# Altium footprint library Resistors.PcbLib: 25 footprints (part 1 of 2)
Each footprint in its own frame and in the unit in brackets; x right, y up, seen from the top. Pads: shape width x height; smd on the part's side, far side on the other; paste and mask are expansions set on the pad; w line width, h text height; cw(c..) or ccw(c..) is an arc to the next point about the centre after c.
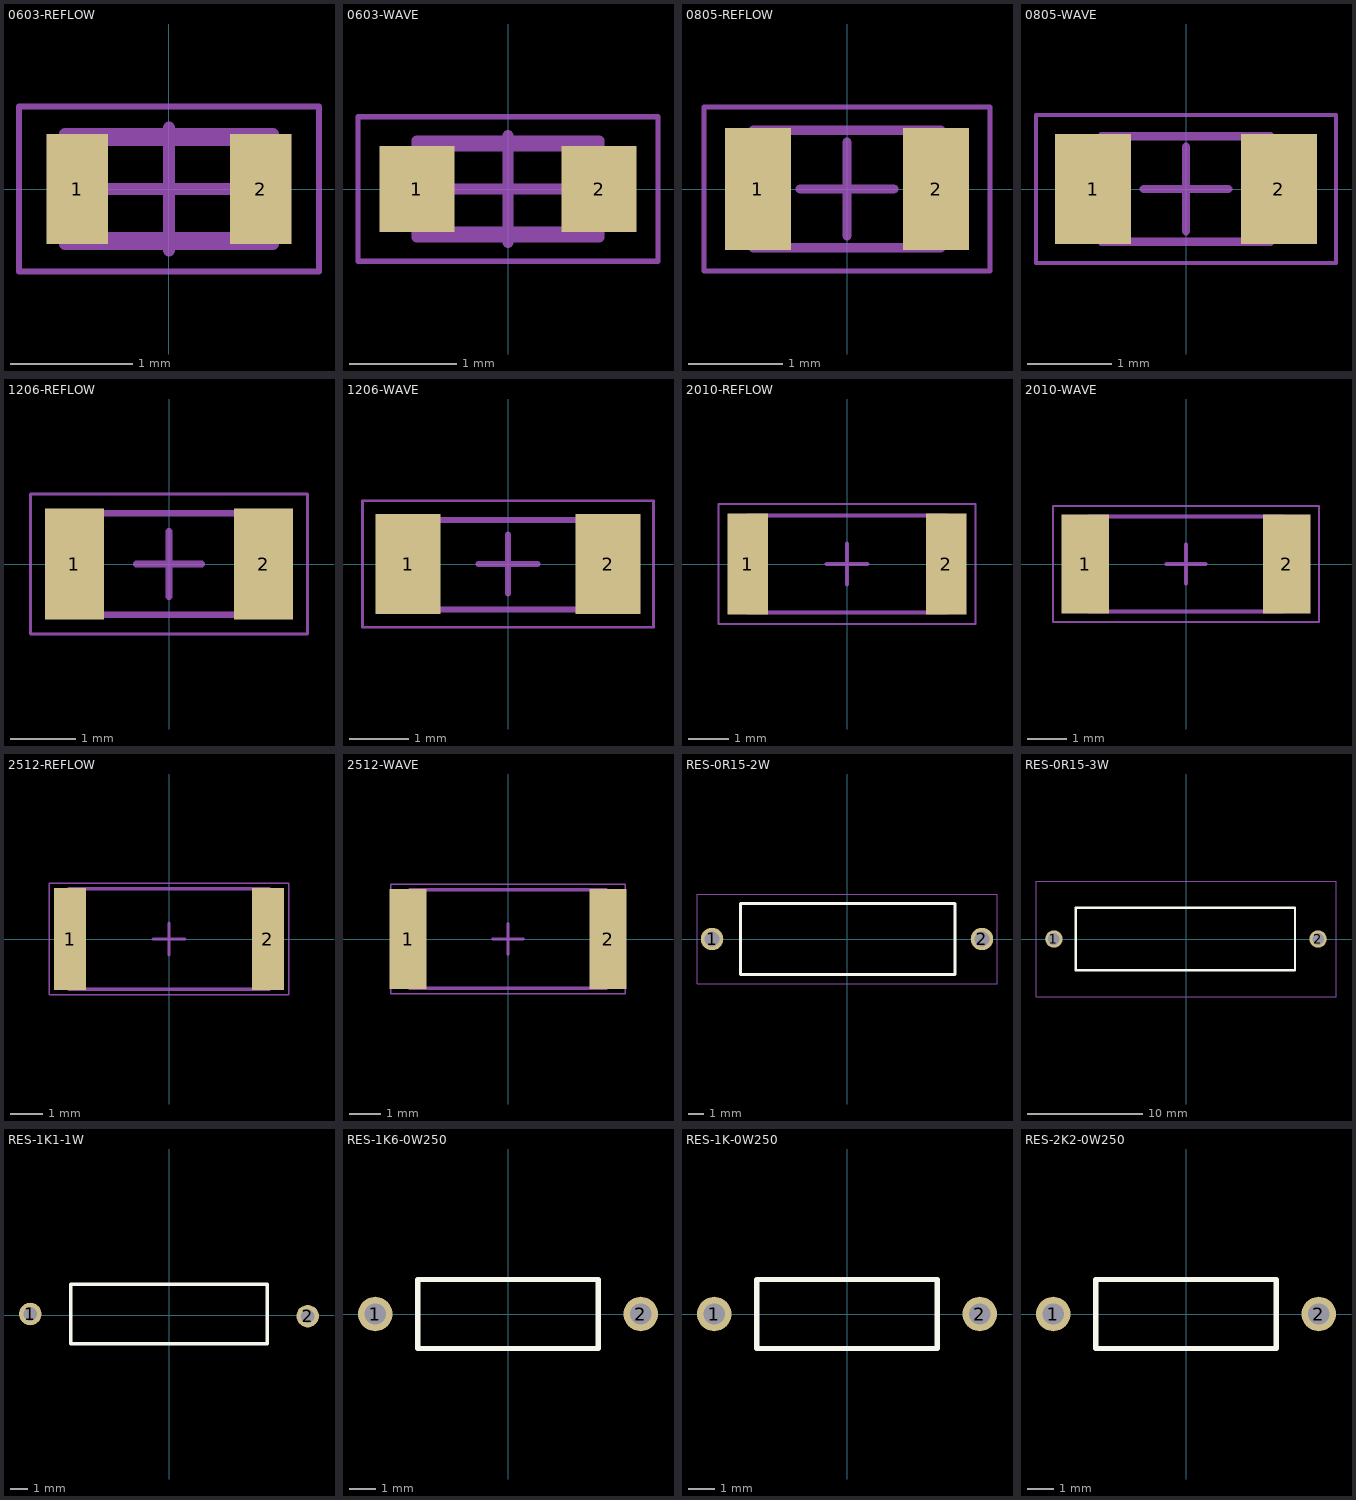
[diagram p0: the footprints below, top view; thin cyan lines are the x and y axes]

## 0603-REFLOW [mm]
pads (2):
  rect 0.5x0.9 smd: 1(-0.75,0) 2(0.75,0)
Top Assembly:
  lines w0.1: -0.85,-0.45 0.85,-0.45 0.85,0.45 -0.85,0.45 -0.85,-0.45
Top Designator:
  text ".Designator" at -3.647,-0.357 h1
Top 3D Body:
  lines w0.1: -0.8,-0.4 -0.8,0.4 0.8,0.4 0.8,-0.4 -0.8,-0.4
Top Courtyard:
  lines w0.05: -1.225,-0.675 1.225,-0.675 1.225,0.675 -1.225,0.675 -1.225,-0.675
Top Component Center (Mech17):
  lines w0.1: -0.5,0 0.5,0 ; 0,-0.5 0,0.5
3D body "RES0603.stp": height 0.45, standoff 0, extent -0.8,-0.4 0.8,0.4

## 0603-WAVE [mm]
pads (2):
  rect 0.7x0.8 smd: 1(-0.85,0) 2(0.85,0)
Top Assembly:
  lines w0.1: -0.85,-0.45 -0.85,0.45 0.85,0.45 0.85,-0.45 -0.85,-0.45
Top Designator:
  text ".Designator" at -3.647,-0.357 h1
Top 3D Body:
  lines w0.1: -0.8,-0.4 0.8,-0.4 0.8,0.4 -0.8,0.4 -0.8,-0.4
Top Courtyard:
  lines w0.05: -1.4,-0.675 -1.4,0.675 1.4,0.675 1.4,-0.675 -1.4,-0.675
Top Component Center (Mech17):
  lines w0.1: -0.5,0 0.5,0 ; 0,-0.5 0,0.5
3D body "RES0603.stp": height 0.45, standoff 0, extent -0.8,-0.4 0.8,0.4

## 0805-REFLOW [mm]
pads (2):
  rect 0.7x1.3 smd: 1(-0.95,0) 2(0.95,0)
Top Assembly:
  lines w0.1: -1,-0.625 -1,0.625 1,0.625 1,-0.625 -1,-0.625
Top Designator:
  text ".Designator" at -3.647,-0.357 h1
Top 3D Body:
  lines w0.1: -1,-0.625 -1,0.625 1,0.625 1,-0.625 -1,-0.625
Top Courtyard:
  lines w0.05: -1.525,-0.875 1.525,-0.875 1.525,0.875 -1.525,0.875 -1.525,-0.875
Top Component Center (Mech17):
  lines w0.1: -0.5,0 0.5,0 ; 0,-0.5 0,0.5
3D body "RES0805.stp": height 0.5, standoff 0, extent -1,-0.63 1,0.62

## 0805-WAVE [mm]
pads (2):
  rect 0.9x1.3 smd: 1(-1.1,0) 2(1.1,0)
Top Assembly:
  lines w0.1: -1,-0.625 -1,0.625 1,0.625 1,-0.625 -1,-0.625
Top Designator:
  text ".Designator" at -3.647,-0.357 h1
Top 3D Body:
  lines w0.1: -1,-0.625 -1,0.625 1,0.625 1,-0.625 -1,-0.625
Top Courtyard:
  lines w0.05: -1.775,-0.875 -1.775,0.875 1.775,0.875 1.775,-0.875 -1.775,-0.875
Top Component Center (Mech17):
  lines w0.1: -0.5,0 0.5,0 ; 0,-0.5 0,0.5
3D body "RES0805.stp": height 0.5, standoff 0, extent -1,-0.63 1,0.62

## 1206-REFLOW [mm]
pads (2):
  rect 0.9x1.7 smd: 1(-1.45,0) 2(1.45,0)
Top Assembly:
  lines w0.1: -1.55,-0.775 -1.55,0.775 1.55,0.775 1.55,-0.775 -1.55,-0.775
Top Designator:
  text ".Designator" at -3.647,-0.357 h1
Top 3D Body:
  lines w0.1: -1.55,-0.775 -1.55,0.775 1.55,0.775 1.55,-0.775 -1.55,-0.775
Top Courtyard:
  lines w0.05: -2.125,-1.075 -2.125,1.075 2.125,1.075 2.125,-1.075 -2.125,-1.075
Top Component Center (Mech17):
  lines w0.1: -0.5,0 0.5,0 ; 0,-0.5 0,0.5
3D body "RES1206.stp": height 0.55, standoff 0, extent -1.55,-0.772 1.55,0.78

## 1206-WAVE [mm]
pads (2):
  rect 1.1x1.7 smd: 1(-1.7,0) 2(1.7,0)
Top Assembly:
  lines w0.1: -1.55,-0.775 1.55,-0.775 1.55,0.75 -1.55,0.75 -1.55,-0.775
Top Designator:
  text ".Designator" at -3.647,-0.357 h1
Top 3D Body:
  lines w0.1: -1.55,-0.775 1.55,-0.775 1.55,0.75 -1.55,0.75 -1.55,-0.775
Top Courtyard:
  lines w0.05: -2.475,-1.075 -2.475,1.075 2.475,1.075 2.475,-1.075 -2.475,-1.075
Top Component Center (Mech17):
  lines w0.1: -0.5,0 0.5,0 ; 0,-0.5 0,0.5
3D body "RES1206.stp": height 0.55, standoff 0, extent -1.55,-0.772 1.55,0.78

## 2010-REFLOW [mm]
pads (2):
  rect 1x2.5 smd: 1(-2.45,0) 2(2.45,0)
Top Assembly:
  lines w0.1: -2.45,-1.2 2.45,-1.2 2.45,1.2 -2.45,1.2 -2.45,-1.2
Top Designator:
  text ".Designator" at -3.646,-0.357 h1
Top 3D Body:
  lines w0.1: -2.45,-1.2 2.45,-1.2 2.45,1.2 -2.45,1.2 -2.45,-1.2
Top Courtyard:
  lines w0.05: -3.175,-1.475 -3.175,1.475 3.175,1.475 3.175,-1.475 -3.175,-1.475
Top Component Center (Mech17):
  lines w0.1: -0.5,0 0.5,0 ; 0,-0.5 0,0.5
3D body "RES2010.stp": height 0.55, standoff 0, extent -2.45,-1.2 2.45,1.2

## 2010-WAVE [mm]
pads (2):
  rect 1.2x2.5 smd: 1(-2.55,0) 2(2.55,0)
Top Assembly:
  lines w0.1: -2.45,-1.2 -2.45,1.2 2.45,1.2 2.45,-1.2 -2.45,-1.2
Top Designator:
  text ".Designator" at -3.647,-0.357 h1
Top 3D Body:
  lines w0.1: -2.45,-1.2 2.45,-1.2 2.45,1.2 -2.45,1.2 -2.45,-1.2
Top Courtyard:
  lines w0.05: -3.375,-1.475 -3.375,1.475 3.375,1.475 3.375,-1.475 -3.375,-1.475
Top Component Center (Mech17):
  lines w0.1: -0.5,0 0.5,0 ; 0,-0.5 0,0.5
3D body "RES2010.stp": height 0.55, standoff 0, extent -2.45,-1.2 2.45,1.2

## 2512-REFLOW [mm]
pads (2):
  rect 1x3.2 smd: 1(-3.1,0) 2(3.1,0)
Top Assembly:
  lines w0.1: -3.15,-1.575 3.15,-1.575 3.15,1.575 -3.15,1.575 -3.15,-1.575
Top Designator:
  text ".Designator" at -3.646,-0.357 h1
Top Courtyard:
  lines w0.05: -3.75,-1.75 3.75,-1.75 3.75,1.75 -3.75,1.75 -3.75,-1.75
Top Component Center (Mech17):
  lines w0.1: -0.5,0 0.5,0 ; 0,-0.5 0,0.5
3D body "RES2512.stp": height 0.55, standoff 0, extent -3.15,-1.55 3.15,1.55

## 2512-WAVE [mm]
pads (2):
  rect 1.2x3.2 smd: 1(-3.2,0) 2(3.2,0)
Top Assembly:
  lines w0.1: -3.15,-1.575 3.15,-1.575 3.15,1.575 -3.15,1.575 -3.15,-1.575
Top Designator:
  text ".Designator" at -3.646,-0.357 h1
Top Courtyard:
  lines w0.05: -3.75,-1.75 3.75,-1.75 3.75,1.75 -3.75,1.75 -3.75,-1.75
Top Component Center (Mech17):
  lines w0.1: -0.5,0 0.5,0 ; 0,-0.5 0,0.5
3D body "RES2512.stp": height 0.55, standoff 0, extent -3.15,-1.55 3.15,1.55

## RES-0R15-2W [mm]
pads (2):
  round 1.5 hole 1 paste-2539.97: 1(-9,0) 2(9,0)
Top Overlay:
  lines w0.2: -7.1,-2.362 7.2,-2.362 7.2,2.362 -7.1,2.362 -7.1,-2.362
Top Designator:
  text ".Designator" at -3.647,-0.357 h1
Top Courtyard:
  lines w0.05: -10,-3 10,-3 10,3 -10,3 -10,-3
3D body "0R15.STEP": height 4.82, standoff -2.57, extent -9.243,-2.418 9.241,2.362

## RES-0R15-3W [mm]
pads (2):
  round 1.5 hole 1 paste-2539.97: 1(-11.45,0) 2(11.45,0)
Top Overlay:
  lines w0.2: -9.55,-2.7 9.45,-2.7 9.45,2.7 -9.55,2.7 -9.55,-2.7
Top Designator:
  text ".Designator" at -3.647,-0.17 h1
Top Courtyard:
  lines w0.05: -13,-5 -13,5 13,5 13,-5 -13,-5
3D body "0R15-3W.STEP": height 6, standoff -7.79, extent -11.88,-3.51 11.78,3.884

## RES-1K1-1W [mm]
pads (2):
  round 1.3 hole 0.8 paste-2539.97: 1(-8.001,0.064) 2(8.001,-0.064)
Top Overlay:
  lines w0.2: -5.677,-1.651 -5.677,1.778 5.677,1.778 5.677,-1.651 -5.677,-1.651
Top Designator:
  text ".Designator" at -3.647,-0.421 h1
3D body "1K1.STEP": height 4.99, standoff -2, extent -8.35,-2 8.35,2

## RES-1K6-0W250 [mm]
pads (2):
  round 1.3 hole 0.8 paste-2539.97: 1(-5,0) 2(5,0)
Top Overlay:
  lines w0.2: -3.4,-1.3 -3.4,1.3 ; -3.4,-1.3 3.4,-1.3 ; -3.4,-1.3 -3.4,1.3 ; -3.4,-1.3 3.4,-1.3 ; -3.4,1.3 3.4,1.3 ; -3.4,1.3 3.4,1.3 ; 3.4,-1.3 3.4,1.3 ; 3.4,-1.3 3.4,1.3
Top Designator:
  text ".Designator" at -3.647,-0.357 h1
3D body "1K6.STEP": height 3.1, standoff -1.3, extent -5.303,-1.201 5.357,1.201

## RES-1K-0W250 [mm]
pads (2):
  round 1.3 hole 0.8 paste-2539.97: 1(-5,0) 2(5,0)
Top Overlay:
  lines w0.2: -3.4,-1.3 3.4,-1.3 ; -3.4,-1.3 -3.4,1.3 ; -3.4,-1.3 -3.4,1.3 ; -3.4,-1.3 3.4,-1.3 ; -3.4,1.3 3.4,1.3 ; -3.4,1.3 3.4,1.3 ; 3.4,-1.3 3.4,1.3 ; 3.4,-1.3 3.4,1.3
Top Designator:
  text ".Designator" at -3.647,-0.357 h1
3D body "1K.STEP": height 3.1, standoff -1.3, extent -5.303,-1.201 5.357,1.201

## RES-2K2-0W250 [mm]
pads (2):
  round 1.3 hole 0.8 paste-2539.97: 1(-5,0) 2(5,0)
Top Overlay:
  lines w0.2: -3.4,-1.3 3.4,-1.3 ; -3.4,-1.3 -3.4,1.3 ; -3.4,-1.3 3.4,-1.3 ; -3.4,-1.3 -3.4,1.3 ; -3.4,1.3 3.4,1.3 ; -3.4,1.3 3.4,1.3 ; 3.4,-1.3 3.4,1.3 ; 3.4,-1.3 3.4,1.3
Top Designator:
  text ".Designator" at -3.647,-0.357 h1
3D body "2K2.STEP": height 3.1, standoff -1.3, extent -5.303,-1.201 5.357,1.201